# Altium footprint library PCB-edited(3)-edited.PcbLib: 28 footprints (part 1 of 2)
Each footprint in its own frame and in the unit in brackets; x right, y up, seen from the top. Pads: shape width x height; smd on the part's side, far side on the other; paste and mask are expansions set on the pad; w line width, h text height; cw(c..) or ccw(c..) is an arc to the next point about the centre after c.
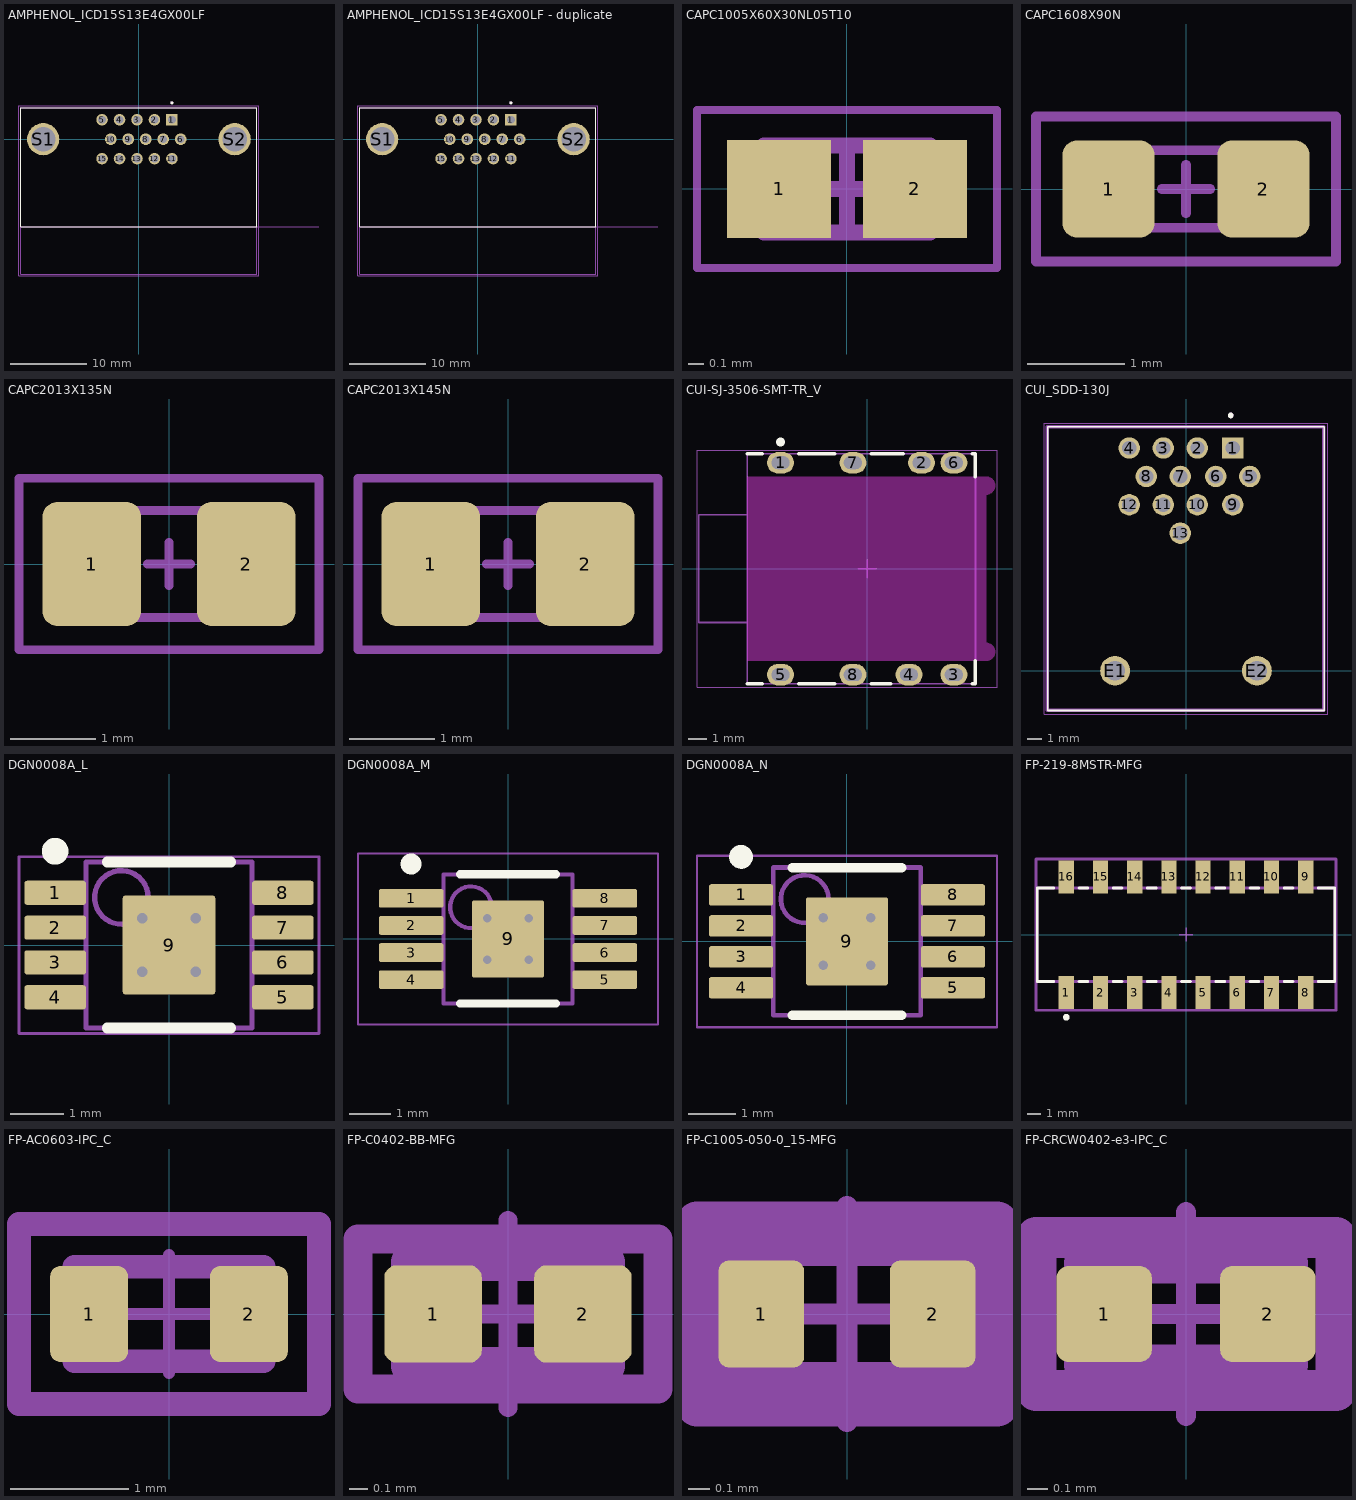
[diagram p0: the footprints below, top view; thin cyan lines are the x and y axes]

## AMPHENOL_ICD15S13E4GX00LF [mm]
height 12.96
pads (17):
  rect 1.508x1.508 / inner round 1.508 / far side rect 1.508x1.508 hole 1: 1(4.305,2.54)
  round 1.508 hole 1: 2(2.025,2.54) 3(-0.255,2.54) 4(-2.535,2.54) 5(-4.815,2.54) 6(5.445,0) 7(3.165,0) 8(0.885,0) 9(-1.395,0) 10(-3.675,0) 11(4.305,-2.54) 12(2.025,-2.54) 13(-0.255,-2.54) 14(-2.535,-2.54) 15(-4.815,-2.54)
  round 4.216 hole 3.2: S1(-12.495,0) S2(12.495,0)
Top Overlay:
  circle w0.2: c4.305,4.75 r0.1
  lines w0.127: -15.405,-11.43 -15.405,4.1 15.405,4.1 15.405,-11.43 -15.405,-11.43
Top Courtyard:
  lines w0.05: -15.655,-17.85 15.655,-17.85 15.655,4.35 -15.655,4.35 -15.655,-17.85
Top Assembly:
  circle w0.2: c4.305,4.75 r0.1
  lines w0.127: 23.5,-11.43 -15.405,-11.43 ; -15.405,-11.43 -15.405,4.1 15.405,4.1 15.405,-17.6 -15.405,-17.6 -15.405,-11.43
  text "PCB EDGE" at 16,-11.25 h1.02
3D body "step_temp.STEP": height 12.55, standoff -3.2, extent -15.505,-17.53 15.495,4.05

## AMPHENOL_ICD15S13E4GX00LF - duplicate [mm]
height 12.96
pads (17):
  rect 1.508x1.508 / inner round 1.508 / far side rect 1.508x1.508 hole 1: 1(4.305,2.54)
  round 1.508 hole 1: 2(2.025,2.54) 3(-0.255,2.54) 4(-2.535,2.54) 5(-4.815,2.54) 6(5.445,0) 7(3.165,0) 8(0.885,0) 9(-1.395,0) 10(-3.675,0) 11(4.305,-2.54) 12(2.025,-2.54) 13(-0.255,-2.54) 14(-2.535,-2.54) 15(-4.815,-2.54)
  round 4.216 hole 3.2: S1(-12.495,0) S2(12.495,0)
Top Overlay:
  circle w0.2: c4.305,4.75 r0.1
  lines w0.127: -15.405,-11.43 -15.405,4.1 15.405,4.1 15.405,-11.43 -15.405,-11.43
Mechanical 13:
  circle w0.2: c4.305,4.75 r0.1
  lines w0.127: 23.5,-11.43 -15.405,-11.43 ; -15.405,-11.43 -15.405,4.1 15.405,4.1 15.405,-17.6 -15.405,-17.6 -15.405,-11.43
  text "PCB EDGE" at 16,-11.25 h1.02
Mechanical 15:
  lines w0.05: -15.655,-17.85 15.655,-17.85 15.655,4.35 -15.655,4.35 -15.655,-17.85
3D body "step_temp.STEP": height 12.55, standoff -3.2, extent -15.505,-17.53 15.495,4.05

## CAPC1005X60X30NL05T10 [mm] "Chip Capacitor, 2-Leads, Body 1.00x0.50mm, IPC Medium Density"
height 0.6
pads (2):
  rect 0.66x0.62 smd: 1(-0.43,0) 2(0.43,0)
Top Courtyard:
  lines w0.05: -0.95,-0.5 -0.95,0.5 0.95,0.5 0.95,-0.5 -0.95,-0.5
  lines w0.1: -0.275,0 0.275,0 ; 0,-0.275 0,0.275
Top Assembly:
  lines w0.1: -0.525,-0.275 -0.525,0.275 0.525,0.275 0.525,-0.275 -0.525,-0.275
3D body: height 0.6, standoff 0, extent -0.225,-0.275 0.225,0.275
3D body: height 0.6, standoff 0, extent -0.525,-0.275 -0.225,0.275
3D body: height 0.6, standoff 0, extent 0.225,-0.275 0.525,0.275

## CAPC1608X90N [mm] "EIA 0603, METRIC 1608"
height 0.9
pads (2):
  rrect30% 0.95x1 smd: 1(-0.8,0) 2(0.8,0)
Top Courtyard:
  lines w0.102: -1.55,-0.75 -1.55,0.75 1.55,0.75 1.55,-0.75 -1.55,-0.75
Top Assembly:
  lines w0.102: -0.8,-0.4 0.8,-0.4 0.8,0.4 -0.8,0.4 -0.8,-0.4
  text ".Designator" at -0.559,-0.229 h0.76
Top Component Center:
  lines w0.102: -0.25,0 0.25,0 ; 0,-0.25 0,0.25
3D body: height 0.9, standoff 0, extent -0.45,-0.4 0.45,0.4
3D body: height 0.9, standoff 0, extent 0.45,-0.4 0.8,0.4
3D body: height 0.9, standoff 0, extent -0.8,-0.4 -0.45,0.4

## CAPC2013X135N [mm] "EIA 0805 METRIC 2013"
height 1.35
pads (2):
  rrect30% 1.15x1.45 smd: 1(-0.9,0) 2(0.9,0)
Top Courtyard:
  lines w0.102: -1.75,-1 -1.75,1 1.75,1 1.75,-1 -1.75,-1
Top Assembly:
  lines w0.102: -1,-0.625 -1,0.625 1,0.625 1,-0.625 -1,-0.625
  text ".Designator" at -1.772,-0.164 h0.76
Top Component Center:
  lines w0.102: -0.25,0 0.25,0 ; 0,-0.25 0,0.25
3D body: height 1.35, standoff 0, extent -1,-0.625 -0.5,0.625
3D body: height 1.35, standoff 0, extent -0.5,-0.625 0.5,0.625
3D body: height 1.35, standoff 0, extent 0.5,-0.625 1,0.625

## CAPC2013X145N [mm] "EIA 0805, METRIC 2013"
height 1.45
pads (2):
  rrect30% 1.15x1.45 smd: 1(-0.9,0) 2(0.9,0)
Top Courtyard:
  lines w0.102: -1.75,-1 -1.75,1 1.75,1 1.75,-1 -1.75,-1
Top Assembly:
  lines w0.102: -1,-0.625 -1,0.625 1,0.625 1,-0.625 -1,-0.625
  text ".Designator" at -0.584,-0.229 h0.76
Top Component Center:
  lines w0.102: -0.25,0 0.25,0 ; 0,-0.25 0,0.25
3D body: height 1.45, standoff 0, extent 0.5,-0.625 1,0.625
3D body: height 1.45, standoff 0, extent -0.5,-0.625 0.5,0.625
3D body: height 1.45, standoff 0, extent -1,-0.625 -0.5,0.625

## CUI-SJ-3506-SMT-TR_V [mm] "Jack, 6-Leads, Body 15.4x12.8mm"
height 4.7
pads (8):
  oval 1.5x1.2 hole 0.7 slot 1 at 0 deg unplated paste-2539.97: 1(-4.825,5.9) 2(3.025,5.9) 3(4.825,-5.9) 4(2.325,-5.9) 5(-4.825,-5.9) 6(4.825,5.9) 7(-0.795,5.9) 8(-0.795,-5.9)
Top Overlay:
  circle w0.25: c-4.825,7.05 r0.125
  lines w0.2: -6.675,-6.4 -5.841,-6.4 ; -6.675,6.4 -5.841,6.4 ; -3.809,-6.4 -1.811,-6.4 ; -3.809,6.4 -1.811,6.4 ; 0.221,-6.4 1.309,-6.4 ; 0.221,6.4 2.009,6.4 ; 5.841,-6.4 6.025,-6.4 6.025,-5.125 ; 5.841,6.4 6.025,6.4 6.025,5.125
Keep-Out Layer:
  board cut-out: -6.675,5.125 6.625,5.125 6.671,5.123 6.716,5.117 6.76,5.106 6.803,5.092 6.846,5.074 6.886,5.052 6.924,5.026 6.959,4.997 6.98,4.977 6.999,4.957 7.034,4.913 7.062,4.867 7.085,4.821 7.103,4.773 7.115,4.724 7.123,4.675 7.125,4.625 7.123,4.581 7.117,4.537 7.107,4.493 7.094,4.45 7.076,4.408 7.054,4.369 7.042,4.349 7.029,4.33 7.001,4.295 6.983,4.276 6.964,4.258 6.944,4.24 6.923,4.224 6.902,4.209 6.88,4.195 6.833,4.17 6.808,4.16 6.783,4.15 6.757,4.143 6.731,4.136 6.705,4.131 6.678,4.128 6.652,4.126 6.625,4.125 6.625,-4.125 6.65,-4.126 6.674,-4.127 6.723,-4.135 6.772,-4.147 6.817,-4.163 6.863,-4.185 6.907,-4.212 6.947,-4.242 6.983,-4.275 7.017,-4.314 7.046,-4.355 7.071,-4.398 7.081,-4.421 7.091,-4.443 7.099,-4.465 7.106,-4.488 7.117,-4.534 7.123,-4.581 7.125,-4.625 7.123,-4.671 7.117,-4.717 7.106,-4.762 7.092,-4.805 7.072,-4.849 7.06,-4.871 7.047,-4.892 7.034,-4.912 7.02,-4.932 6.989,-4.968 6.971,-4.986 6.952,-5.004 6.933,-5.019 6.912,-5.035 6.891,-5.049 6.869,-5.061 6.847,-5.073 6.824,-5.084 6.801,-5.093 6.777,-5.101 6.752,-5.109 6.727,-5.115 6.702,-5.119 6.677,-5.122 6.651,-5.124 6.625,-5.125 -6.675,-5.125
Top Courtyard:
  lines w0.05: -9.475,-6.6 7.225,-6.6 7.225,6.6 -9.475,6.6 -9.475,-6.6
  lines w0.1: -0.5,0 0.5,0 ; 0,-0.5 0,0.5
Top Assembly:
  lines w0.1: -6.675,-3 -9.375,-3 -9.375,3 -6.675,3 ; -6.675,-6.4 -6.675,6.4 6.025,6.4 6.025,-6.4 -6.675,-6.4
3D body "sj-3506-smt.stp": height 3.26, standoff -2.74, extent -9.375,-6.4 6.025,6.4

## CUI_SDD-130J [mm]
height 19.8
pads (15):
  rect 1.508x1.508 / inner round 1.508 / far side rect 1.508x1.508 hole 1: 1(3.3,15.7)
  round 1.508 hole 1: 2(0.8,15.7) 3(-1.6,15.7) 4(-4,15.7) 5(4.5,13.7) 6(2.1,13.7) 7(-0.4,13.7) 8(-2.8,13.7) 9(3.3,11.7) 10(0.8,11.7) 11(-1.6,11.7) 12(-4,11.7) 13(-0.4,9.7)
  round 2.1 hole 1.4: E1(-5,0) E2(5,0)
Top Overlay:
  circle w0.2: c3.15,18 r0.1
  lines w0.127: -9.75,-2.8 -9.75,17.2 9.75,17.2 9.75,-2.8 -9.75,-2.8
Top Courtyard:
  lines w0.05: -10,-3.05 10,-3.05 10,17.45 -10,17.45 -10,-3.05
Top Assembly:
  circle w0.2: c3.15,18 r0.1
  lines w0.127: -9.75,-2.8 -9.75,17.2 9.75,17.2 9.75,-2.8 -9.75,-2.8
  lines w0.254: -9.779,-2.794 9.721,-2.794 9.721,17.206 -9.779,17.206 -9.779,-2.794
3D body: height 3.5, standoff -3.5, extent 3.016,15.416 3.584,15.984
3D body: height 3.5, standoff -3.5, extent 0.516,15.416 1.084,15.984
3D body: height 3.5, standoff -3.5, extent -1.884,15.416 -1.316,15.984
3D body: height 3.5, standoff -3.5, extent -4.284,15.416 -3.716,15.984
3D body: height 3.5, standoff -3.5, extent -3.084,13.416 -2.516,13.984
3D body: height 3.5, standoff -3.5, extent -0.684,13.416 -0.116,13.984
3D body: height 3.5, standoff -3.5, extent 1.816,13.416 2.384,13.984
3D body: height 3.5, standoff -3.5, extent 4.216,13.416 4.784,13.984
3D body: height 3.5, standoff -3.5, extent -4.284,11.416 -3.716,11.984
3D body: height 3.5, standoff -3.5, extent -1.884,11.416 -1.316,11.984
3D body: height 3.5, standoff -3.5, extent 0.516,11.416 1.084,11.984
3D body: height 3.5, standoff -3.5, extent 3.016,11.416 3.584,11.984
3D body: height 3.5, standoff -3.5, extent -0.684,9.416 -0.116,9.984
3D body: height 3.5, standoff -3.5, extent 4.716,-0.284 5.284,0.284
3D body: height 3.5, standoff -3.5, extent -5.284,-0.284 -4.716,0.284
3D body: height 19.5, standoff 0, extent -9.779,-2.794 9.721,17.206

## DGN0008A_L [mm] "TSOP, 8-Leads, Body 3.1x3.1mm, Pitch 0.65mm, Thermal Pad 1.85x1.73mm, IPC High Density"
height 1.1
pads (9):
  rrect22% 1.15x0.45 smd: 1(-2.125,0.975) 2(-2.125,0.325) 3(-2.125,-0.325) 4(-2.125,-0.975) 5(2.125,-0.975) 6(2.125,-0.325) 7(2.125,0.325) 8(2.125,0.975)
  rrect6% 1.73x1.85 smd: 9(0,0)
via 0.5,-0.5 diameter 0.4 hole 0.2
via -0.5,-0.5 diameter 0.4 hole 0.2
via 0.5,0.5 diameter 0.4 hole 0.2
via -0.5,0.5 diameter 0.4 hole 0.2
Top Overlay:
  circle w0.25: c-2.125,1.75 r0.125
  lines w0.2: -1.15,-1.55 1.15,-1.55 ; -1.15,1.55 1.15,1.55
Top Courtyard:
  lines w0.05: -2.8,-1.65 -2.8,1.65 2.8,1.65 2.8,-1.65 -2.8,-1.65
Top Assembly:
  circle w0.1: c-0.889,0.889 r0.5
  lines w0.1: -1.55,-1.55 -1.55,1.55 1.55,1.55 1.55,-1.55 -1.55,-1.55
  text ".Designator" at -1.397,-0.254 h0.7
Top Component Center:
  lines w0.1: -0.5,0 0.5,0 ; 0,-0.5 0,0.5
3D body "MUY08A_ASM.stp": height 0.94, standoff -0.02, extent -2.451,-1.499 2.451,1.499

## DGN0008A_M [mm] "TSOP, 8-Leads, Body 3.1x3.1mm, Pitch 0.65mm, Thermal Pad 1.85x1.73mm, IPC Low Density"
height 1.1
pads (9):
  rrect22% 1.55x0.45 smd: 1(-2.325,0.975) 2(-2.325,0.325) 3(-2.325,-0.325) 4(-2.325,-0.975) 5(2.325,-0.975) 6(2.325,-0.325) 7(2.325,0.325) 8(2.325,0.975)
  rrect6% 1.73x1.85 smd: 9(0,0)
via 0.5,-0.5 diameter 0.4 hole 0.2
via -0.5,-0.5 diameter 0.4 hole 0.2
via 0.5,0.5 diameter 0.4 hole 0.2
via -0.5,0.5 diameter 0.4 hole 0.2
Top Overlay:
  circle w0.25: c-2.325,1.8 r0.125
  lines w0.2: -1.15,-1.55 1.15,-1.55 ; -1.15,1.55 1.15,1.55
Mechanical 1:
  text ".Designator" at -1.397,-0.254 h0.7
Mechanical 13:
  circle w0.1: c-0.889,0.762 r0.5
  lines w0.1: -1.55,-1.55 -1.55,1.55 1.55,1.55 1.55,-1.55 -1.55,-1.55
Mechanical 15:
  lines w0.05: -3.6,-2.05 -3.6,2.05 3.6,2.05 3.6,-2.05 -3.6,-2.05
  lines w0.1: -0.5,0 0.5,0 ; 0,-0.5 0,0.5
3D body "MUY08A_ASM.stp": height 0.94, standoff -0.02, extent -2.451,-1.499 2.451,1.499

## DGN0008A_N [mm] "TSOP, 8-Leads, Body 3.1x3.1mm, Pitch 0.65mm, Thermal Pad 1.85x1.73mm, IPC Medium Density"
height 1.1
pads (9):
  rrect22% 1.35x0.45 smd: 1(-2.225,0.975) 2(-2.225,0.325) 3(-2.225,-0.325) 4(-2.225,-0.975) 5(2.225,-0.975) 6(2.225,-0.325) 7(2.225,0.325) 8(2.225,0.975)
  rrect6% 1.73x1.85 smd: 9(0,0)
via 0.5,-0.5 diameter 0.4 hole 0.2
via -0.5,-0.5 diameter 0.4 hole 0.2
via 0.5,0.5 diameter 0.4 hole 0.2
via -0.5,0.5 diameter 0.4 hole 0.2
Top Overlay:
  circle w0.25: c-2.225,1.775 r0.125
  lines w0.2: -1.15,-1.55 1.15,-1.55 ; -1.15,1.55 1.15,1.55
Mechanical 1:
  text ".Designator" at -1.397,-0.254 h0.7
Mechanical 13:
  circle w0.1: c-0.889,0.889 r0.5
  lines w0.1: -1.55,-1.55 1.55,-1.55 1.55,1.55 -1.55,1.55 -1.55,-1.55
Mechanical 15:
  lines w0.05: -3.15,-1.8 3.15,-1.8 3.15,1.8 -3.15,1.8 -3.15,-1.8
  lines w0.1: -0.5,0 0.5,0 ; 0,-0.5 0,0.5
3D body "MUY08A_ASM.stp": height 0.94, standoff -0.02, extent -2.451,-1.499 2.451,1.499

## FP-219-8MSTR-MFG [mm]
height 0.6
pads (16):
  rect 1.13x2.44 smd paste+0 mask+0: 1(-8.89,-4.3) 2(-6.35,-4.3) 3(-3.81,-4.3) 4(-1.27,-4.3) 5(1.27,-4.3) 6(3.81,-4.3) 7(6.35,-4.3) 8(8.89,-4.3) 9(8.89,4.3) 10(6.35,4.3) 11(3.81,4.3) 12(1.27,4.3) 13(-1.27,4.3) 14(-3.81,4.3) 15(-6.35,4.3) 16(-8.89,4.3)
Top Overlay:
  circle w0.25: c-8.89,-6.13 r0.125
  lines w0.2: -9.83,-3.475 -11.045,-3.475 -11.045,3.475 -9.83,3.475 ; -7.95,-3.475 -7.29,-3.475 ; -7.95,3.475 -7.29,3.475 ; -5.41,-3.475 -4.75,-3.475 ; -5.41,3.475 -4.75,3.475 ; -2.87,-3.475 -2.21,-3.475 ; -2.87,3.475 -2.21,3.475 ; -0.33,-3.475 0.33,-3.475 ; -0.33,3.475 0.33,3.475 ; 2.21,-3.475 2.87,-3.475 ; 2.21,3.475 2.87,3.475 ; 4.75,-3.475 5.41,-3.475 ; 4.75,3.475 5.41,3.475 ; 7.29,-3.475 7.95,-3.475 ; 7.29,3.475 7.95,3.475 ; 9.83,-3.475 11.045,-3.475 11.045,3.475 9.83,3.475
Top 3D Body:
  lines w0.2: -11.045,-3.475 -11.045,3.475 11.045,3.475 11.045,-3.475 -11.045,-3.475
Top Courtyard:
  lines w0.2: -11.145,-5.62 -11.145,5.62 11.145,5.62 11.145,-5.62 -11.145,-5.62
Top Assembly:
  lines w0.2: -11.145,-5.62 -11.145,5.62 11.145,5.62 11.145,-5.62 -11.145,-5.62
  text ".Designator" at 0,-0.001 h1
Top Component Center:
  lines w0.1: -0.5,0 0.5,0 ; 0,-0.5 0,0.5
3D body "Switch_CTS_Components_219-8MSTR_eec.STEP": height 0.25, standoff 0, extent -11.145,-5.62 11.145,5.62

## FP-AC0603-IPC_C [mm]
height 0.6
pads (2):
  rrect25% 0.659x0.812 smd paste+0 mask+0: 1(-0.677,0) 2(0.677,0)
Top 3D Body:
  lines w0.2: -0.8,-0.4 -0.8,0.4 0.8,0.4 0.8,-0.4 -0.8,-0.4
Top Assembly:
  lines w0.2: -1.27,-0.762 -1.27,0.762 1.27,0.762 1.27,-0.762 -1.27,-0.762
  text ".Designator" at 0,0.188 h1
Top Component Center:
  lines w0.1: -0.5,0 0.5,0 ; 0,-0.5 0,0.5
3D body "Res_Yageo_AC0603FR-07180RL_eec.STEP": height 0.25, standoff 0, extent -1.106,-0.55 1.106,0.55

## FP-C0402-BB-MFG [mm]
height 0.6
pads (2):
  rrect25% 0.52x0.52 smd paste+0 mask+0: 1(-0.4,0) 2(0.4,0)
Top 3D Body:
  lines w0.2: -0.525,-0.275 0.525,-0.275 0.525,0.275 -0.525,0.275 -0.525,-0.275
Top Assembly:
  lines w0.152: -0.8,-0.4 0.8,-0.4 0.8,0.4 -0.8,0.4 -0.8,-0.4
  text ".Designator" at 0,0.188 h1
Top Component Center:
  lines w0.1: -0.5,0 0.5,0 ; 0,-0.5 0,0.5
3D body "Cap_Kemet_C0402C562J5RACTU_eec.STEP": height 0.25, standoff 0, extent -0.8,-0.4 0.8,0.4

## FP-C1005-050-0_15-MFG [mm]
height 0.6
pads (2):
  rrect25% 0.4x0.5 smd paste+0 mask+0: 1(-0.4,0) 2(0.4,0)
Top 3D Body:
  lines w0.2: -0.575,-0.325 -0.575,0.325 0.575,0.325 0.575,-0.325 -0.575,-0.325
Top Assembly:
  lines w0.2: -0.7,-0.425 -0.7,0.425 0.7,0.425 0.7,-0.425 -0.7,-0.425
  text ".Designator" at 0,0.188 h1
Top Component Center:
  lines w0.1: -0.5,0 0.5,0 ; 0,-0.5 0,0.5
3D body "Cap_TDK_C1005X5R1A475M050BC_eec.STEP": height 0.25, standoff 0, extent -0.7,-0.425 0.7,0.425

## FP-CRCW0402-e3-IPC_C [mm]
height 0.6
pads (2):
  rrect25% 0.468x0.472 smd paste+0 mask+0: 1(-0.402,0) 2(0.402,0)
Top 3D Body:
  lines w0.2: -0.5,-0.25 -0.5,0.25 0.5,0.25 0.5,-0.25 -0.5,-0.25
Top Assembly:
  lines w0.2: -0.736,-0.375 -0.736,0.375 0.736,0.375 0.736,-0.375 -0.736,-0.375
  text ".Designator" at 0,0.188 h1
Top Component Center:
  lines w0.1: -0.5,0 0.5,0 ; 0,-0.5 0,0.5
3D body "Res_Vishay_CRCW04021K00FKED_eec.STEP": height 0.25, standoff 0, extent -0.736,-0.375 0.736,0.375